# EAGLE library part 24LC* (library microchip)
Serial EEPROM 128 byte/1 K, 2.5 V, dual mode I2C
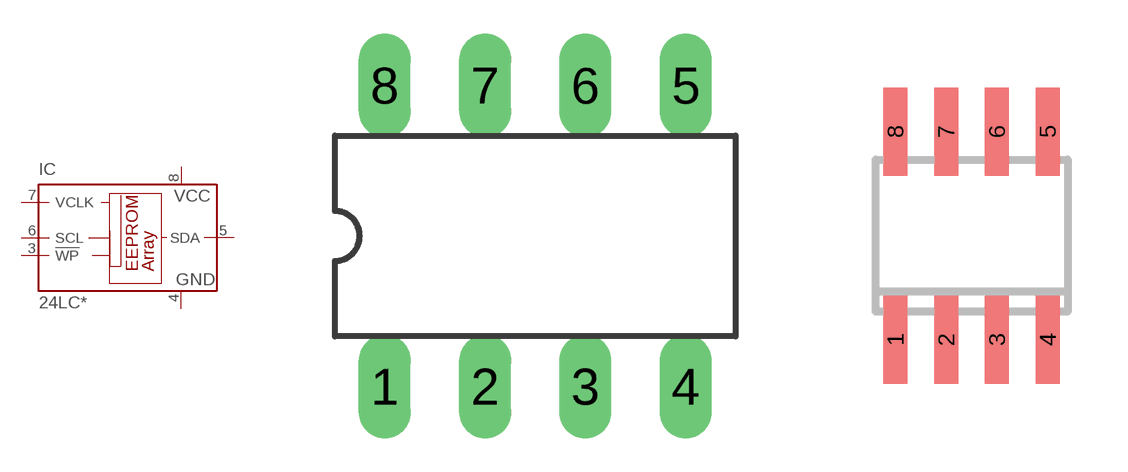
[diagram p45: symbol with the pads of DIL8; footprints DIL8, SO-08]

Designator prefix IC

## 24LCS21AP  [DIL8]
3  !WP  in
4  GND  pwr
5  SDA
6  SCL  in
7  VCLK  in
8  VCC  pwr

## 24LCS21ASN  [SO-08]
Pads as for DIL8

## Footprint DIL8 (pad centres in mm)
Dual In Line package type P
drill 0.813 long: 1 -3.81,-3.81; 2 -1.27,-3.81; 3 1.27,-3.81; 4 3.81,-3.81; 5 3.81,3.81; 6 1.27,3.81; 7 -1.27,3.81; 8 -3.81,3.81

## Footprint SO-08 (pad centres in mm)
Small Outline Narrow Plastic Gull Wing 150-mil body, package type SN
smd 0.6 x 2.2: 1 -1.905,-2.6; 2 -0.635,-2.6; 3 0.635,-2.6; 4 1.905,-2.6; 5 1.905,2.6; 6 0.635,2.6; 7 -0.635,2.6; 8 -1.905,2.6